# Altium schematic symbol library CL32A107MPVNNNE.SchLib: 1 symbol
Pins are listed as number, name and electrical type; pins without a type are passive.

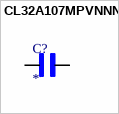
[diagram p0: symbol CL32A107MPVNNNE]

## CL32A107MPVNNNE
designator C?
Cap Ceramic 100uF 10V X5R 20% SMD 1210 85Â°C Embossed T/R; MF: {'manufacturer': u'Samsung Electro-Mechanics'}; MP: CL32A107MPVNNNE; Package: None; Price: None; Value: *; Availability: Unavailable
footprint ANTC3225X280N
pins: 1, 2